# EAGLE library part MAX8880EUT+T (library aurigaBot)
LDO
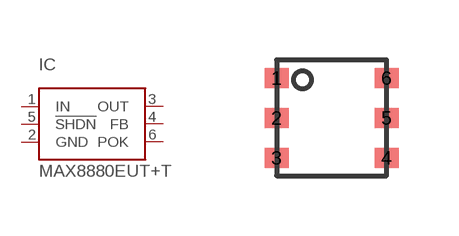
[diagram p4: symbol with the pads of SOT23-6; footprint SOT23-6]

Designator prefix IC

## MAX8880EUT+T  [SOT23-6]
1  IN  in
2  GND  pwr
3  OUT  pwr
4  FB  in
5  !SHDN  in
6  POK  out

## Footprint SOT23-6 (pad centres in mm)
smd 0.6 x 0.5: 1 -1.35,1; 2 -1.35,0; 3 -1.35,-1; 4 1.4,-1; 5 1.4,0; 6 1.4,1